# Altium schematic symbol library SSQ-110-03-T-S.SchLib: 1 symbol
Pins are listed as number, name and electrical type; pins without a type are passive.

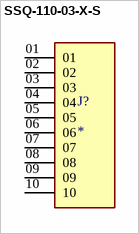
[diagram p0: symbol SSQ-110-03-X-S]

## SSQ-110-03-X-S
designator J?
10 Position Receptacle Connector Through Hole; MP: SSQ-110-03-X-S; MF: {'manufacturer': u'Samtec'}; Price: None; Availability: Unavailable; Value: *; Package: None
footprint SAMTEC_SSQ-110-03-X-S
pins: 01, 02, 03, 04, 05, 06, 07, 08, 09, 10